# Altium schematic symbol library Crystals.SchLib: 4 symbols
Pins are listed as number, name and electrical type; pins without a type are passive.

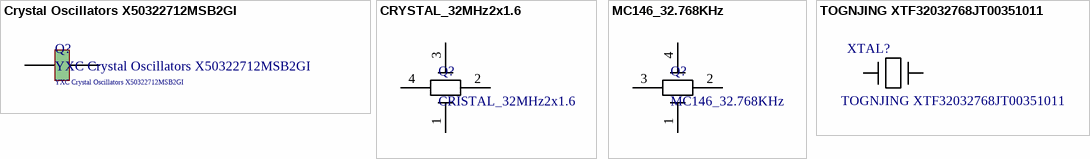
[diagram p0: symbols Crystal Oscillators X50322712MSB2GI to TOGNJING XTF32032768JT00351011]

## Crystal Oscillators X50322712MSB2GI
designator Q?, comment YXC Crystal Oscillators X50322712MSB2GI
Crystal 27.12MHz ±10ppm 20pF SMD5032-2P; sample link: https://www.lcsc.com/product-detail/C157343.html; val: YXC Crystal Oscillators X50322712MSB2GI
footprint SMD5032-2P
pins: 1, 2

## CRYSTAL_32MHz2x1.6
designator Q?, comment CRISTAL_32MHz2x1.6
CRYSTAL_32MHz2x1.6
footprint CRYSTAL_2X1.6 (Footprint not found)
pins: 1, 2, 3, 4

## MC146_32.768KHz
designator Q?
note: Original; val: MC-146 32.7680KA-A0:ROHS; sample link: https://www.lcsc.com/product-detail/Crystals_Seiko-SSP-T7-F-32-768kHz-20PPM7pF_C108685.html
footprint MC146_Crystal (Chip Capacitor, 2-Leads, Body 1,53x0,77mm, IPC Medium Density)
pins: 1, 2, 3, 4

## TOGNJING XTF32032768JT00351011
designator XTAL?
32.768 kHz Â±20ppm Crystal 12.5pF 70 kOhms 2-SMD, No Lead; note: Original; val: TOGNJING XTF32032768JT00351011; sample link: https://www.lcsc.com/product-detail/C37635363.html
footprint XTAL_3215
pins: 1, 2